# Altium schematic symbol library ANTENNA.SchLib: 3 symbols
Pins are listed as number, name and electrical type; pins without a type are passive.

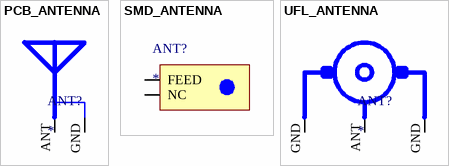
[diagram p0: symbols PCB_ANTENNA to UFL_ANTENNA]

## PCB_ANTENNA
designator ANT?
footprint TI_AN043 (Small Size 2.4 GHz PCB antenna)
footprint TI_DN007 (2.4 GHz Inverted F Antenna)
pins: ANT, GND

## SMD_ANTENNA
designator ANT?
footprint ANT016008LCS2442MA2 (Multilayer antenna for 2400-2484MHz 1.6x0.8mm)
footprint ANT3216LL00R2400A (2.45GHz Bluetooth, ISM, Wi-Fi, Zigbee™ Chip RF Antenna 2.4GHz ~ 2.5GHz 5.05dBi Solder Surface Mount)
pins: FEED, NC

## UFL_ANTENNA
designator ANT?
footprint HRS_U.FL-R-SMT(01)
pins: ANT, GND, GND